# Altium footprint library Vertap_PcbLib.PcbLib: 11 footprints
Each footprint in its own frame and in the unit in brackets; x right, y up, seen from the top. Pads: shape width x height; smd on the part's side, far side on the other; paste and mask are expansions set on the pad; w line width, h text height; cw(c..) or ccw(c..) is an arc to the next point about the centre after c.
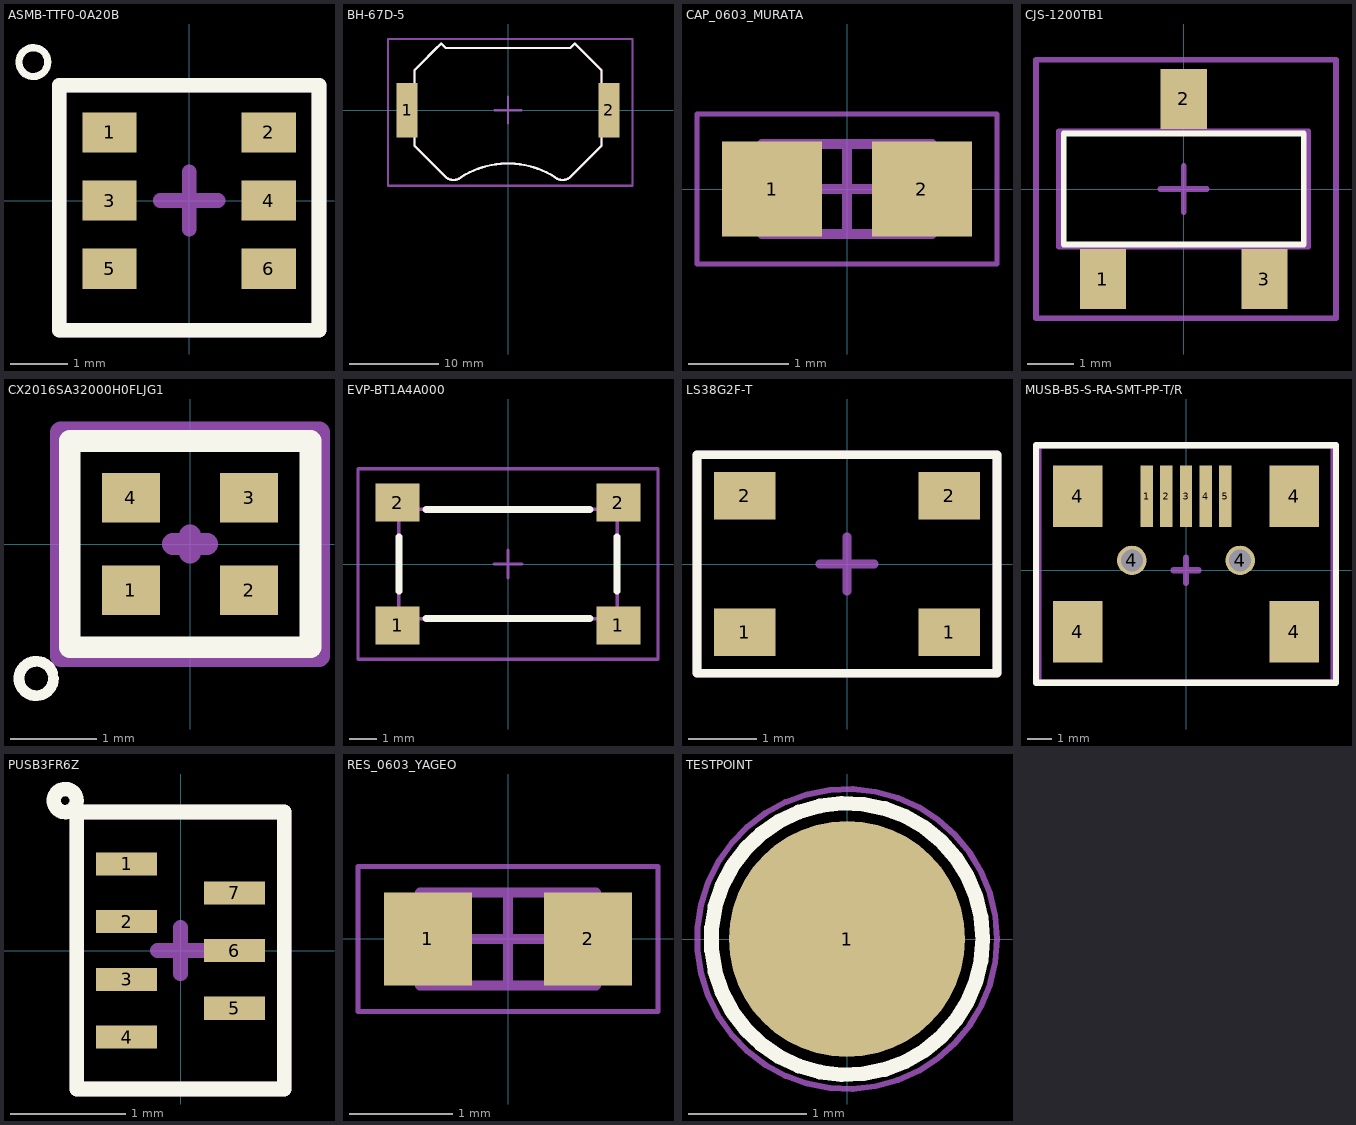
[diagram p0: the footprints below, top view; thin cyan lines are the x and y axes]

## ASMB-TTF0-0A20B [mm]
pads (6):
  rect 0.94x0.7 smd: 1(-1.38,1.18) 2(1.38,1.18) 3(-1.38,0) 4(1.38,0) 5(-1.38,-1.18) 6(1.38,-1.18)
Top Overlay:
  circle w0.125: c-2.7,2.4 r0.25
  lines w0.254: -2.25,-2.25 -2.25,2 2.25,2 2.25,-2.25 -2.25,-2.25
Top Courtyard:
  lines w0.254: -2.25,-2.25 -2.25,2 2.25,2 2.25,-2.25 -2.25,-2.25
Top Designator:
  text ".Designator" at 0.254,0.762 h1.52
Top Component Center:
  lines w0.254: -0.5,0 0.5,0 ; 0,-0.5 0,0.5
3D body "ASMB-TTF0-0A20B.step": height 2.8, standoff 0, extent -1.85,-1.805 1.85,1.695

## BH-67D-5 [mm]
pads (2):
  rect 2.4x6.1 smd: 1(-11.35,0) 2(11.35,0)
Top Overlay:
  lines w0.254: -10.5,-4 -10.5,4.5 -9.75,5.25 -8.25,6.75 -7.5,7.5 -7,7 7,7 7.5,7.5 10.5,4.5 10.5,-4 7,-7.5 cw(c6.125,-6.625) 5.25,-7.5 ccw(c0,-15.854) -5.25,-7.5 cw(c-6.125,-6.625) -7,-7.5 -10.5,-4
Top Courtyard:
  lines w0.254: -13.5,-8.5 14,-8.5 14,8 -13.5,8 -13.5,-8.5
Top Designator:
  text ".Designator" at 0.254,0.762 h1.52
Top Component Center:
  lines w0.254: -1.5,0 1.5,0 ; 0,-1.5 0,1.5
Top Component Outline:
  lines w0.254: -10.5,-4 -7,-7.5 ccw(c-6.125,-6.625) -5.25,-7.5 cw(c0,-15.854) 5.25,-7.5 ccw(c6.125,-6.625) 7,-7.5 10.5,-4 10.5,4.5 7.5,7.5 7,7 -7,7 -7.5,7.5 -8.25,6.75 -9.75,5.25 -10.5,4.5 -10.5,-4
3D body "BH-67D-5.STEP": height 3.05, standoff 0, extent -11.584,-7.486 11.526,8.134

## CAP_0603_MURATA [mm] "Chip Capacitor, 2-Leads, Body 1.60x0.80mm, IPC Medium Density"
height 0.9
pads (2):
  rect 1x0.95 smd: 1(-0.75,0) 2(0.75,0)
Top Designator:
  text ".Designator" at -7.618,-0.508 h1.52
Mechanical 13:
  lines w0.1: -0.85,-0.45 0.85,-0.45 0.85,0.45 -0.85,0.45 -0.85,-0.45
Mechanical 15:
  lines w0.05: -1.5,-0.75 1.5,-0.75 1.5,0.75 -1.5,0.75 -1.5,-0.75
  lines w0.1: -0.45,0 0.45,0 ; 0,-0.45 0,0.45
3D body "CAP_0603_MURATA.step": height 0.9, standoff 0, extent -0.85,-0.45 0.85,0.45

## CJS-1200TB1 [mm]
pads (3):
  rect 1x1.3 smd: 1(-1.75,-1.95) 2(0,1.95) 3(1.75,-1.95)
Top Overlay:
  lines w0.127: -2.6,-1.2 2.6,-1.2 2.6,1.2 -2.6,1.2 -2.6,-1.2
Top Courtyard:
  lines w0.127: -3.2,-2.8 3.3,-2.8 3.3,2.8 -3.2,2.8 -3.2,-2.8
Top Designator:
  text ".Designator" at 0.254,0.762 h1.52
Top Component Center:
  lines w0.127: -0.5,0 0.5,0 ; 0,-0.5 0,0.5
Top Component Outline:
  lines w0.127: -2.7,-1.25 2.7,-1.25 2.7,1.25 -2.7,1.25 -2.7,-1.25
3D body "CJS-1200TB.SLDPRT": height 2.51, standoff -0.03, extent -2.692,-2.307 2.708,1.893

## CX2016SA32000H0FLJG1 [mm]
pads (4):
  rect 0.675x0.575 smd: 1(-0.687,-0.537) 2(0.687,-0.537) 3(0.687,0.537) 4(-0.687,0.537)
Top Overlay:
  lines w0.125: -1.6,-1.5 ccw(c-1.79,-1.563) -1.59,-1.563
  lines w0.254: -1.4,-1.2 1.4,-1.2 1.4,1.2 -1.4,1.2 -1.4,-1.2
Top Courtyard:
  lines w0.254: -1.5,-1.3 -1.5,1.3 1.5,1.3 1.5,-1.3 -1.5,-1.3
Top Designator:
  text ".Designator" at 0.254,0.762 h1.52
Top Component Center:
  lines w0.254: -0.2,0 0.2,0 ; 0,-0.1 0,0.1
3D body "dsx211sh_l2-05_w1-65_h0-45.stp": height 0.45, standoff -0.01, extent -1.025,-0.81 1.025,0.84

## EVP-BT1A4A000 [mm]
pads (4):
  rect 1.6x1.4 smd: 1(-4.05,-2.25) 1(4.05,-2.25) 2(-4.05,2.25) 2(4.05,2.25)
Top Overlay:
  lines w0.254: -4,-1 -4,1 ; -3,-2 3,-2 ; -3,2 3,2 ; 4,-1 4,1
Top Courtyard:
  lines w0.127: -5.5,-3.5 -5.5,3.5 5.5,3.5 5.5,-3.5 -5.5,-3.5
Top Designator:
  text ".Designator" at 0.254,0.762 h1.52
Top Component Center:
  lines w0.127: -0.5,0 0.5,0 ; 0,-0.5 0,0.5
Top Component Outline:
  lines w0.127: -4,-2 -4,2 4,2 4,-2 -4,-2
3D body "EVPBT1A4A000.step": height 4.3, standoff 0, extent -4,-3.052 4,3.052

## LS38G2F-T [mm]
pads (4):
  rect 0.9x0.7 smd: 1(-1.5,-1) 1(1.5,-1) 2(-1.5,1) 2(1.5,1)
Top Overlay:
  lines w0.127: -2.2,-1.6 -2.2,1.6 2.2,1.6 2.2,-1.6 -2.2,-1.6
Top Courtyard:
  lines w0.127: -2.2,-1.6 -2.2,1.6 2.2,1.6 2.2,-1.6 -2.2,-1.6
Top Designator:
  text ".Designator" at 0.254,0.762 h1.52
Top Component Center:
  lines w0.127: -0.4,0 0.4,0 ; 0,-0.4 0,0.4
3D body "SKSGAAE010 3_2x2_7x1_4.step": height 1.6, standoff 0, extent -1.75,-1.35 1.75,1.35

## MUSB-B5-S-RA-SMT-PP-T/R [mm]
pads (11):
  rect 0.5x2.5 smd: 1(-1.6,3) 2(-0.8,3) 3(0,3) 4(0.8,3) 5(1.6,3)
  rect 2x2.5 smd: 4(-4.4,-2.5) 4(-4.4,3) 4(4.4,-2.5) 4(4.4,3)
  round 1.2 hole 0.9: 4(-2.2,0.4) 4(2.2,0.4)
Top Overlay:
  lines w0.254: -6.096,-4.572 6.096,-4.572 6.096,5.08 -6.096,5.08 -6.096,-4.572
Top Courtyard:
  lines w0.254: -6,-4.572 6,-4.572 6,5.08 -6,5.08 -6,-4.572
Top Designator:
  text ".Designator" at -5.334,6.35 h1.52
Top Component Center:
  lines w0.254: -0.508,0 0.508,0 ; 0,-0.508 0,0.508
3D body "usb2066-05-rbhm-15-stb-00-01-a.stp": height 4.06, standoff -1.07, extent -4.937,-5.429 4.963,3.971

## PUSB3FR6Z [mm]
pads (7):
  rect 0.53x0.2 smd: 1(-0.467,0.75) 2(-0.467,0.25) 3(-0.467,-0.25) 4(-0.467,-0.75) 5(0.467,-0.5) 6(0.467,0) 7(0.467,0.5)
Top Overlay:
  circle w0.125: c-1,1.3 r0.1
  lines w0.127: -0.9,-1.2 -0.9,1.2 0.9,1.2 0.9,-1.2 -0.9,-1.2
Top Courtyard:
  lines w0.127: -0.9,-1.2 0.9,-1.2 0.9,1.2 -0.9,1.2 -0.9,-1.2
Top Designator:
  text ".Designator" at 0.254,0.762 h1.52
Top Component Center:
  lines w0.127: -0.2,0 0.2,0 ; 0,-0.2 0,0.2
3D body "PUSB3FR6Z.STEP": height 0.48, standoff -0.03, extent -0.529,-1.051 0.571,1.074

## RES_0603_YAGEO [mm] "Chip Resistor, 2-Leads, Body 1.60x0.80mm, IPC Medium Density"
height 0.55
pads (2):
  rect 0.85x0.9 smd: 1(-0.775,0) 2(0.775,0)
Top Designator:
  text ".Designator" at -7.618,-0.508 h1.52
Mechanical 13:
  lines w0.1: -0.85,-0.45 0.85,-0.45 0.85,0.45 -0.85,0.45 -0.85,-0.45
Mechanical 15:
  lines w0.05: -1.45,-0.7 1.45,-0.7 1.45,0.7 -1.45,0.7 -1.45,-0.7
  lines w0.1: -0.45,0 0.45,0 ; 0,-0.45 0,0.45
3D body "RESC1608X06N.step": height 0.55, standoff 0, extent -0.85,-0.45 0.85,0.45

## TESTPOINT [mm]
pads (1):
  round 2 smd: 1(0,0)
Top Overlay:
  circle w0.125: c0,0 r1.15
Top Courtyard:
  circle w0.05: c0,0 r1.27
Top Designator:
  text ".Designator" at -7.618,-0.508 h1.52
Top Component Center:
  lines w0.254: -0.508,0 0.508,0 ; 0,-0.508 0,0.508